# Altium schematic symbol library Components - 23.08.25 - 03.47.SchLib: 1 symbol
Pins are listed as number, name and electrical type; pins without a type are passive.

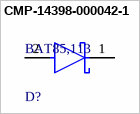
[diagram p0: symbol CMP-14398-000042-1]

## CMP-14398-000042-1
designator D?, comment BAT85,113
DIODE SCHOTTKY 30V 200MA DO34; RoHS Compliant: Yes
footprint FP-SOD68-MFG
pins: 1 C, 2 A